# EAGLE library part USB-C*? (library USB)
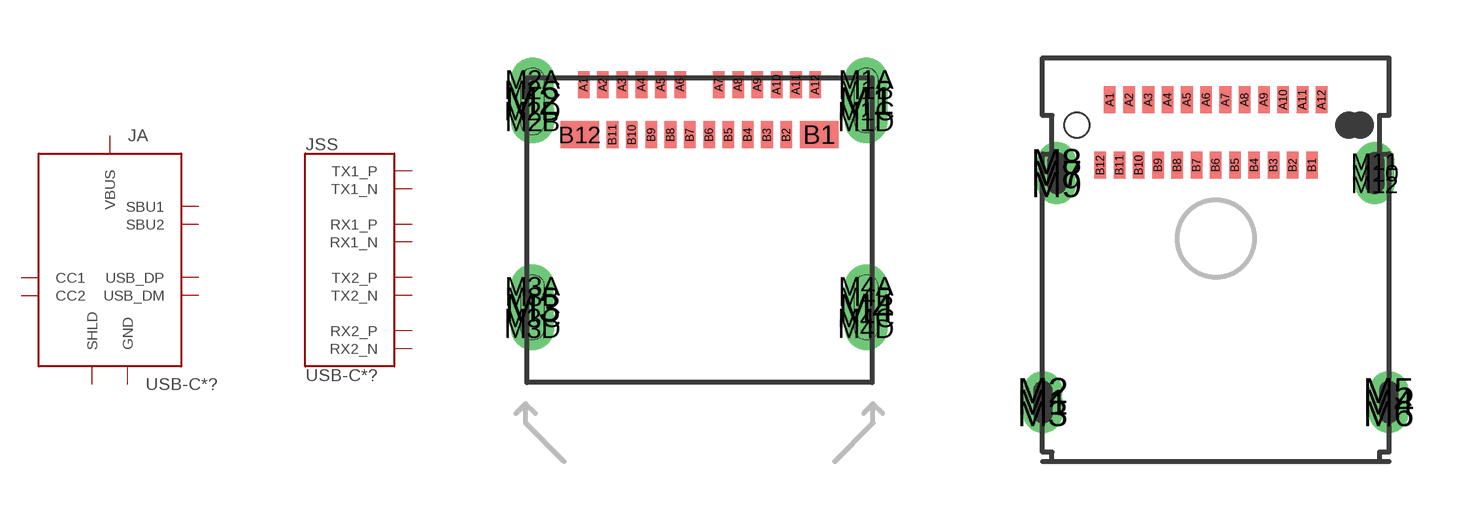
[diagram p4: symbol with the pads of MOLEX-1054500101; footprints MOLEX-1054500101, AMPHENOL-12401598]

Designator prefix J; gates A=USB-C-LS SS=USB-C-SS

## USB-C1054500101 (MF: MOLEX; MPN: 1054500101)  [MOLEX-1054500101]
A1  A:GND  pwr
A2  SS:TX1_P
A3  SS:TX1_N
A4  A:VBUS
A5  A:CC1
A6  A:USB_DP
A7  A:USB_DM
A8  A:SBU1
A9  A:VBUS
A10  SS:RX2_N
A11  SS:RX2_P
A12  A:GND  pwr
B1  A:GND  pwr
B2  SS:TX2_P
B3  SS:TX2_N
B4  A:VBUS
B5  A:CC2
B6  A:USB_DP
B7  A:USB_DM
B8  A:SBU2
B9  A:VBUS
B10  SS:RX1_N
B11  SS:RX1_P
B12  A:GND  pwr
M1  A:SHLD  pas
M1A  A:SHLD  pas
M1B  A:SHLD  pas
M1C  A:SHLD  pas
M1D  A:SHLD  pas
M2  A:SHLD  pas
M2A  A:SHLD  pas
M2B  A:SHLD  pas
M2C  A:SHLD  pas
M2D  A:SHLD  pas
M3  A:SHLD  pas
M3A  A:SHLD  pas
M3B  A:SHLD  pas
M3C  A:SHLD  pas
M3D  A:SHLD  pas
M4  A:SHLD  pas
M4A  A:SHLD  pas
M4B  A:SHLD  pas
M4C  A:SHLD  pas
M4D  A:SHLD  pas

## USB-C-AMP-12401598 (MF: Amphenol; MPN: 12401598E4#2A)  [AMPHENOL-12401598]
A1  A:GND  pwr
A2  SS:TX1_P
A3  SS:TX1_N
A4  A:VBUS
A5  A:CC1
A6  A:USB_DP
A7  A:USB_DM
A8  A:SBU1
A9  A:VBUS
A10  SS:RX2_N
A11  SS:RX2_P
A12  A:GND  pwr
B1  A:GND  pwr
B2  SS:TX2_P
B3  SS:TX2_N
B4  A:VBUS
B5  A:CC2
B6  A:USB_DP
B7  A:USB_DM
B8  A:SBU2
B9  A:VBUS
B10  SS:RX1_N
B11  SS:RX1_P
B12  A:GND  pwr
M1  A:SHLD  pas
M2  A:SHLD  pas
M3  A:SHLD  pas
M4  A:SHLD  pas
M5  A:SHLD  pas
M6  A:SHLD  pas
M7  A:SHLD  pas
M8  A:SHLD  pas
M9  A:SHLD  pas
M10  A:SHLD  pas
M11  A:SHLD  pas
M12  A:SHLD  pas

## Footprint MOLEX-1054500101 (pad centres in mm)
smd 0.3 x 0.7: A1 -3,3.77; A2 -2.5,3.77; A3 -2,3.77; A4 -1.5,3.77; A5 -1,3.77; A6 -0.5,3.77; A7 0.5,3.77; A8 1,3.77; A9 1.5,3.77; A10 2,3.77; A11 2.5,3.77; A12 3,3.77; B2 2.25,2.47; B3 1.75,2.47; B4 1.25,2.47; B5 0.75,2.47; B6 0.25,2.47; B7 -0.25,2.47; B8 -0.75,2.47; B9 -1.25,2.47; B10 -1.75,2.47
smd 1 x 0.7: B1 3.1,2.47; B12 -3.1,2.47
smd 0.31 x 0.7: B11 -2.25,2.47
drill 0.6 pad 1.1 long: M1 4.32,3.36; M2 -4.32,3.36; M3 -4.32,-2; M4 4.32,-2
drill 0.6 pad 1.1: M1A 4.32,3.91; M1B 4.32,3.64; M1C 4.32,3.09; M1D 4.32,2.81; M2A -4.32,3.91; M2B -4.32,2.81; M2C -4.32,3.64; M2D -4.32,3.09; M3A -4.32,-1.45; M3B -4.32,-1.72; M3C -4.32,-2.27; M3D -4.32,-2.55; M4A 4.32,-1.45; M4B 4.32,-1.72; M4C 4.32,-2.27; M4D 4.32,-2.55

## Footprint AMPHENOL-12401598 (pad centres in mm)
smd 0.3 x 0.7: A1 -2.75,3.66; A2 -2.25,3.66; A3 -1.75,3.66; A4 -1.25,3.66; A5 -0.75,3.66; A6 -0.25,3.66; A7 0.25,3.66; A8 0.75,3.66; A9 1.25,3.66; A10 1.75,3.66; A11 2.25,3.66; A12 2.75,3.66; B1 2.5,1.96; B2 2,1.96; B3 1.5,1.96; B4 1,1.96; B5 0.5,1.96; B6 0,1.96; B7 -0.5,1.96; B8 -1,1.96; B9 -1.5,1.96; B10 -2,1.96; B11 -2.5,1.96; B12 -3,1.96
drill 0.5 pad 0.8: M1 -4.49,-4.2; M2 -4.49,-3.9; M3 -4.49,-4.5; M4 4.49,-4.2; M5 4.49,-3.9; M6 4.49,-4.5; M7 -4.13,1.75; M8 -4.13,2.05; M9 -4.13,1.45; M10 4.13,1.75; M11 4.13,2.05; M12 4.13,1.45
hole 0.65 at -3.6,3
hole 0.65 at 3.45,3
hole 0.65 at 3.75,3